# Altium footprint library Common-Parts-Library.PcbLib: 530 footprints (part 7 of 34)
Each footprint in its own frame and in the unit in brackets; x right, y up, seen from the top. Pads: shape width x height; smd on the part's side, far side on the other; paste and mask are expansions set on the pad; w line width, h text height; cw(c..) or ccw(c..) is an arc to the next point about the centre after c.
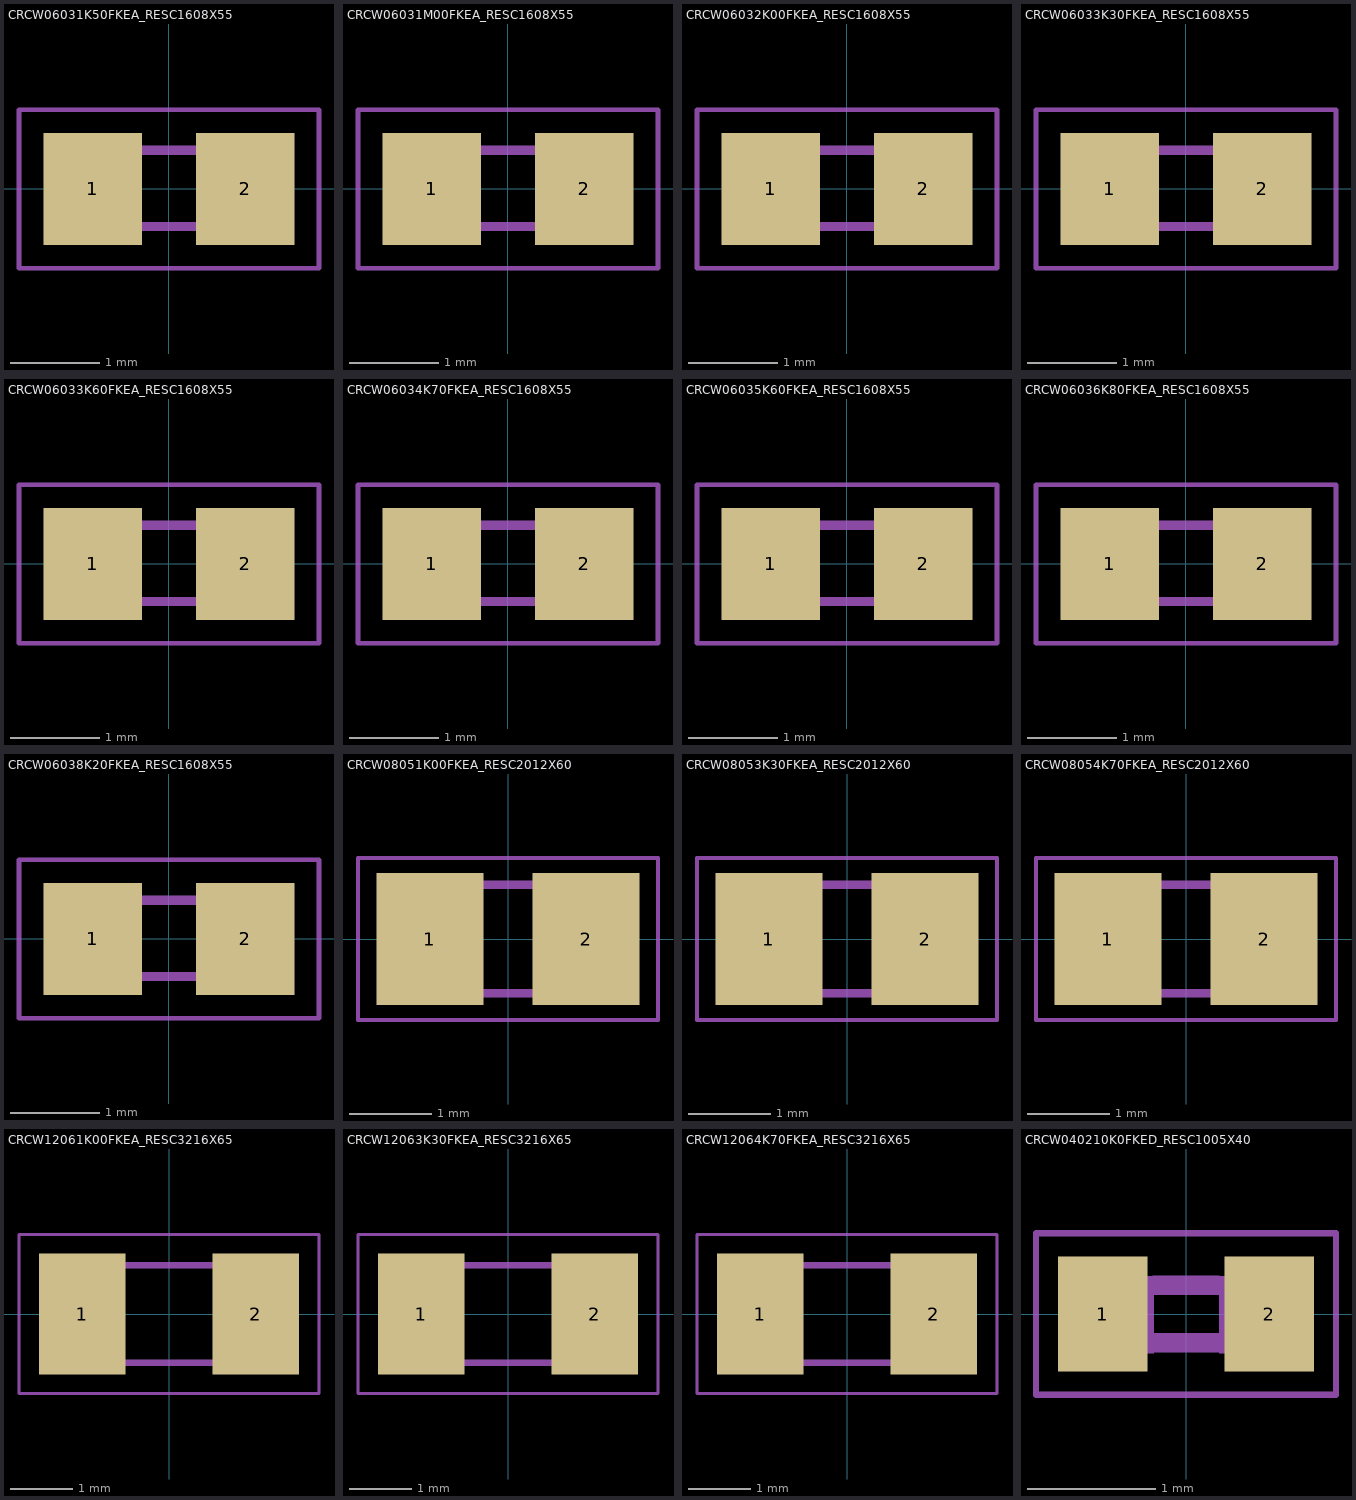
[diagram p6: the footprints below, top view; thin cyan lines are the x and y axes]

## CRCW06031K50FKEA_RESC1608X55 [mm]
pads (2):
  rect 1.1x1.25 smd: 1(-0.85,0) 2(0.85,0)
Mechanical 1:
  region: 0.331,0.48 0.83,0.48 0.83,-0.471 0.331,-0.471
  region: -0.839,0.48 -0.338,0.48 -0.338,-0.47 -0.839,-0.47
  lines w0.051: -1.673,-0.883 -1.673,0.883 1.673,0.883 1.673,-0.883 -1.673,-0.883
  lines w0.102: -0.356,-0.419 0.356,-0.419 ; -0.356,0.432 0.356,0.432

## CRCW06031M00FKEA_RESC1608X55 [mm]
pads (2):
  rect 1.1x1.25 smd: 1(-0.85,0) 2(0.85,0)
Mechanical 1:
  region: 0.331,0.48 0.83,0.48 0.83,-0.471 0.331,-0.471
  region: -0.84,0.48 -0.338,0.48 -0.338,-0.471 -0.84,-0.471
  lines w0.051: -1.673,-0.883 -1.673,0.883 1.673,0.883 1.673,-0.883 -1.673,-0.883
  lines w0.102: -0.356,-0.419 0.356,-0.419 ; -0.356,0.432 0.356,0.432

## CRCW06032K00FKEA_RESC1608X55 [mm]
pads (2):
  rect 1.1x1.25 smd: 1(-0.85,0) 2(0.85,0)
Mechanical 1:
  region: 0.331,0.48 0.83,0.48 0.83,-0.471 0.331,-0.471
  region: -0.841,0.48 -0.338,0.48 -0.338,-0.472 -0.841,-0.472
  lines w0.051: -1.673,-0.883 -1.673,0.883 1.673,0.883 1.673,-0.883 -1.673,-0.883
  lines w0.102: -0.356,-0.419 0.356,-0.419 ; -0.356,0.432 0.356,0.432

## CRCW06033K30FKEA_RESC1608X55 [mm]
pads (2):
  rect 1.1x1.25 smd: 1(-0.85,0) 2(0.85,0)
Mechanical 1:
  region: 0.331,0.48 0.83,0.48 0.83,-0.471 0.331,-0.471
  region: -0.838,0.48 -0.338,0.48 -0.338,-0.47 -0.838,-0.47
  lines w0.051: -1.673,-0.883 -1.673,0.883 1.673,0.883 1.673,-0.883 -1.673,-0.883
  lines w0.102: -0.356,-0.419 0.356,-0.419 ; -0.356,0.432 0.356,0.432

## CRCW06033K60FKEA_RESC1608X55 [mm]
pads (2):
  rect 1.1x1.25 smd: 1(-0.85,0) 2(0.85,0)
Mechanical 1:
  region: 0.331,0.48 0.83,0.48 0.83,-0.471 0.331,-0.471
  region: -0.84,0.48 -0.338,0.48 -0.338,-0.471 -0.84,-0.471
  lines w0.051: -1.673,-0.883 -1.673,0.883 1.673,0.883 1.673,-0.883 -1.673,-0.883
  lines w0.102: -0.356,-0.419 0.356,-0.419 ; -0.356,0.432 0.356,0.432

## CRCW06034K70FKEA_RESC1608X55 [mm]
pads (2):
  rect 1.1x1.25 smd: 1(-0.85,0) 2(0.85,0)
Mechanical 1:
  region: 0.331,0.48 0.83,0.48 0.83,-0.471 0.331,-0.471
  region: -0.84,0.48 -0.338,0.48 -0.338,-0.471 -0.84,-0.471
  lines w0.051: -1.673,-0.883 -1.673,0.883 1.673,0.883 1.673,-0.883 -1.673,-0.883
  lines w0.102: -0.356,-0.419 0.356,-0.419 ; -0.356,0.432 0.356,0.432

## CRCW06035K60FKEA_RESC1608X55 [mm]
pads (2):
  rect 1.1x1.25 smd: 1(-0.85,0) 2(0.85,0)
Mechanical 1:
  region: 0.331,0.48 0.83,0.48 0.83,-0.471 0.331,-0.471
  region: -0.839,0.48 -0.338,0.48 -0.338,-0.47 -0.839,-0.47
  lines w0.051: -1.673,-0.883 -1.673,0.883 1.673,0.883 1.673,-0.883 -1.673,-0.883
  lines w0.102: -0.356,-0.419 0.356,-0.419 ; -0.356,0.432 0.356,0.432

## CRCW06036K80FKEA_RESC1608X55 [mm]
pads (2):
  rect 1.1x1.25 smd: 1(-0.85,0) 2(0.85,0)
Mechanical 1:
  region: 0.331,0.48 0.83,0.48 0.83,-0.471 0.331,-0.471
  region: -0.84,0.48 -0.338,0.48 -0.338,-0.471 -0.84,-0.471
  lines w0.051: -1.673,-0.883 -1.673,0.883 1.673,0.883 1.673,-0.883 -1.673,-0.883
  lines w0.102: -0.356,-0.419 0.356,-0.419 ; -0.356,0.432 0.356,0.432

## CRCW06038K20FKEA_RESC1608X55 [mm]
pads (2):
  rect 1.1x1.25 smd: 1(-0.85,0) 2(0.85,0)
Mechanical 1:
  region: 0.331,0.48 0.83,0.48 0.83,-0.471 0.331,-0.471
  region: -0.841,0.48 -0.338,0.48 -0.338,-0.471 -0.841,-0.471
  lines w0.051: -1.673,-0.883 -1.673,0.883 1.673,0.883 1.673,-0.883 -1.673,-0.883
  lines w0.102: -0.356,-0.419 0.356,-0.419 ; -0.356,0.432 0.356,0.432

## CRCW08051K00FKEA_RESC2012X60 [mm]
pads (2):
  rect 1.3x1.6 smd: 1(-0.95,0) 2(0.95,0)
Mechanical 1:
  region: 0.357,0.726 1.106,0.726 1.106,-0.726 0.357,-0.726
  region: -1.096,0.726 -0.342,0.726 -0.342,-0.726 -1.096,-0.726
  lines w0.051: -1.823,-0.983 -1.823,0.983 1.823,0.983 1.823,-0.983 -1.823,-0.983
  lines w0.102: -0.381,0.66 0.381,0.66 ; -0.356,-0.66 0.381,-0.66

## CRCW08053K30FKEA_RESC2012X60 [mm]
pads (2):
  rect 1.3x1.6 smd: 1(-0.95,0) 2(0.95,0)
Mechanical 1:
  region: 0.356,0.726 1.106,0.726 1.106,-0.726 0.356,-0.726
  region: -1.095,0.726 -0.342,0.726 -0.342,-0.725 -1.095,-0.725
  lines w0.051: -1.823,-0.983 -1.823,0.983 1.823,0.983 1.823,-0.983 -1.823,-0.983
  lines w0.102: -0.381,0.66 0.381,0.66 ; -0.356,-0.66 0.381,-0.66

## CRCW08054K70FKEA_RESC2012X60 [mm]
pads (2):
  rect 1.3x1.6 smd: 1(-0.95,0) 2(0.95,0)
Mechanical 1:
  region: 0.356,0.726 1.106,0.726 1.106,-0.725 0.356,-0.725
  region: -1.096,0.726 -0.342,0.726 -0.342,-0.726 -1.096,-0.726
  lines w0.051: -1.823,-0.983 -1.823,0.983 1.823,0.983 1.823,-0.983 -1.823,-0.983
  lines w0.102: -0.381,0.66 0.381,0.66 ; -0.356,-0.66 0.381,-0.66

## CRCW12061K00FKEA_RESC3216X65 [mm]
pads (2):
  rect 1.4x1.95 smd: 1(-1.4,0) 2(1.4,0)
Mechanical 1:
  region: 0.954,0.851 1.702,0.851 1.702,-0.851 0.954,-0.851
  region: -1.704,0.849 -0.952,0.849 -0.952,-0.852 -1.704,-0.852
  lines w0.051: -2.423,-1.283 -2.423,1.283 2.423,1.283 2.423,-1.283 -2.423,-1.283
  lines w0.102: -0.965,-0.787 0.965,-0.787 ; -0.965,0.787 0.965,0.787

## CRCW12063K30FKEA_RESC3216X65 [mm]
pads (2):
  rect 1.4x1.95 smd: 1(-1.4,0) 2(1.4,0)
Mechanical 1:
  region: 0.954,0.851 1.702,0.851 1.702,-0.851 0.954,-0.851
  region: -1.704,0.849 -0.952,0.849 -0.952,-0.852 -1.704,-0.852
  lines w0.051: -2.423,-1.283 -2.423,1.283 2.423,1.283 2.423,-1.283 -2.423,-1.283
  lines w0.102: -0.965,-0.787 0.965,-0.787 ; -0.965,0.787 0.965,0.787

## CRCW12064K70FKEA_RESC3216X65 [mm]
pads (2):
  rect 1.4x1.95 smd: 1(-1.4,0) 2(1.4,0)
Mechanical 1:
  region: 0.955,0.851 1.702,0.851 1.702,-0.852 0.955,-0.852
  region: -1.704,0.849 -0.952,0.849 -0.952,-0.852 -1.704,-0.852
  lines w0.051: -2.423,-1.283 -2.423,1.283 2.423,1.283 2.423,-1.283 -2.423,-1.283
  lines w0.102: -0.965,-0.787 0.965,-0.787 ; -0.965,0.787 0.965,0.787

## CRCW040210K0FKED_RESC1005X40 [mm]
pads (2):
  rect 0.7x0.9 smd: 1(-0.65,0) 2(0.65,0)
Mechanical 1:
  region: 0.259,0.295 0.559,0.295 0.559,-0.305 0.259,-0.305
  region: -0.556,0.295 -0.254,0.295 -0.254,-0.306 -0.556,-0.306
  lines w0.051: -1.173,-0.633 -1.173,0.633 1.173,0.633 1.173,-0.633 -1.173,-0.633
  lines w0.152: -0.245,-0.224 0.245,-0.224 ; -0.245,0.224 0.245,0.224